# Altium footprint library TOxx.PcbLib: 13 footprints
Each footprint in its own frame and in the unit in brackets; x right, y up, seen from the top. Pads: shape width x height; smd on the part's side, far side on the other; paste and mask are expansions set on the pad; w line width, h text height; cw(c..) or ccw(c..) is an arc to the next point about the centre after c.
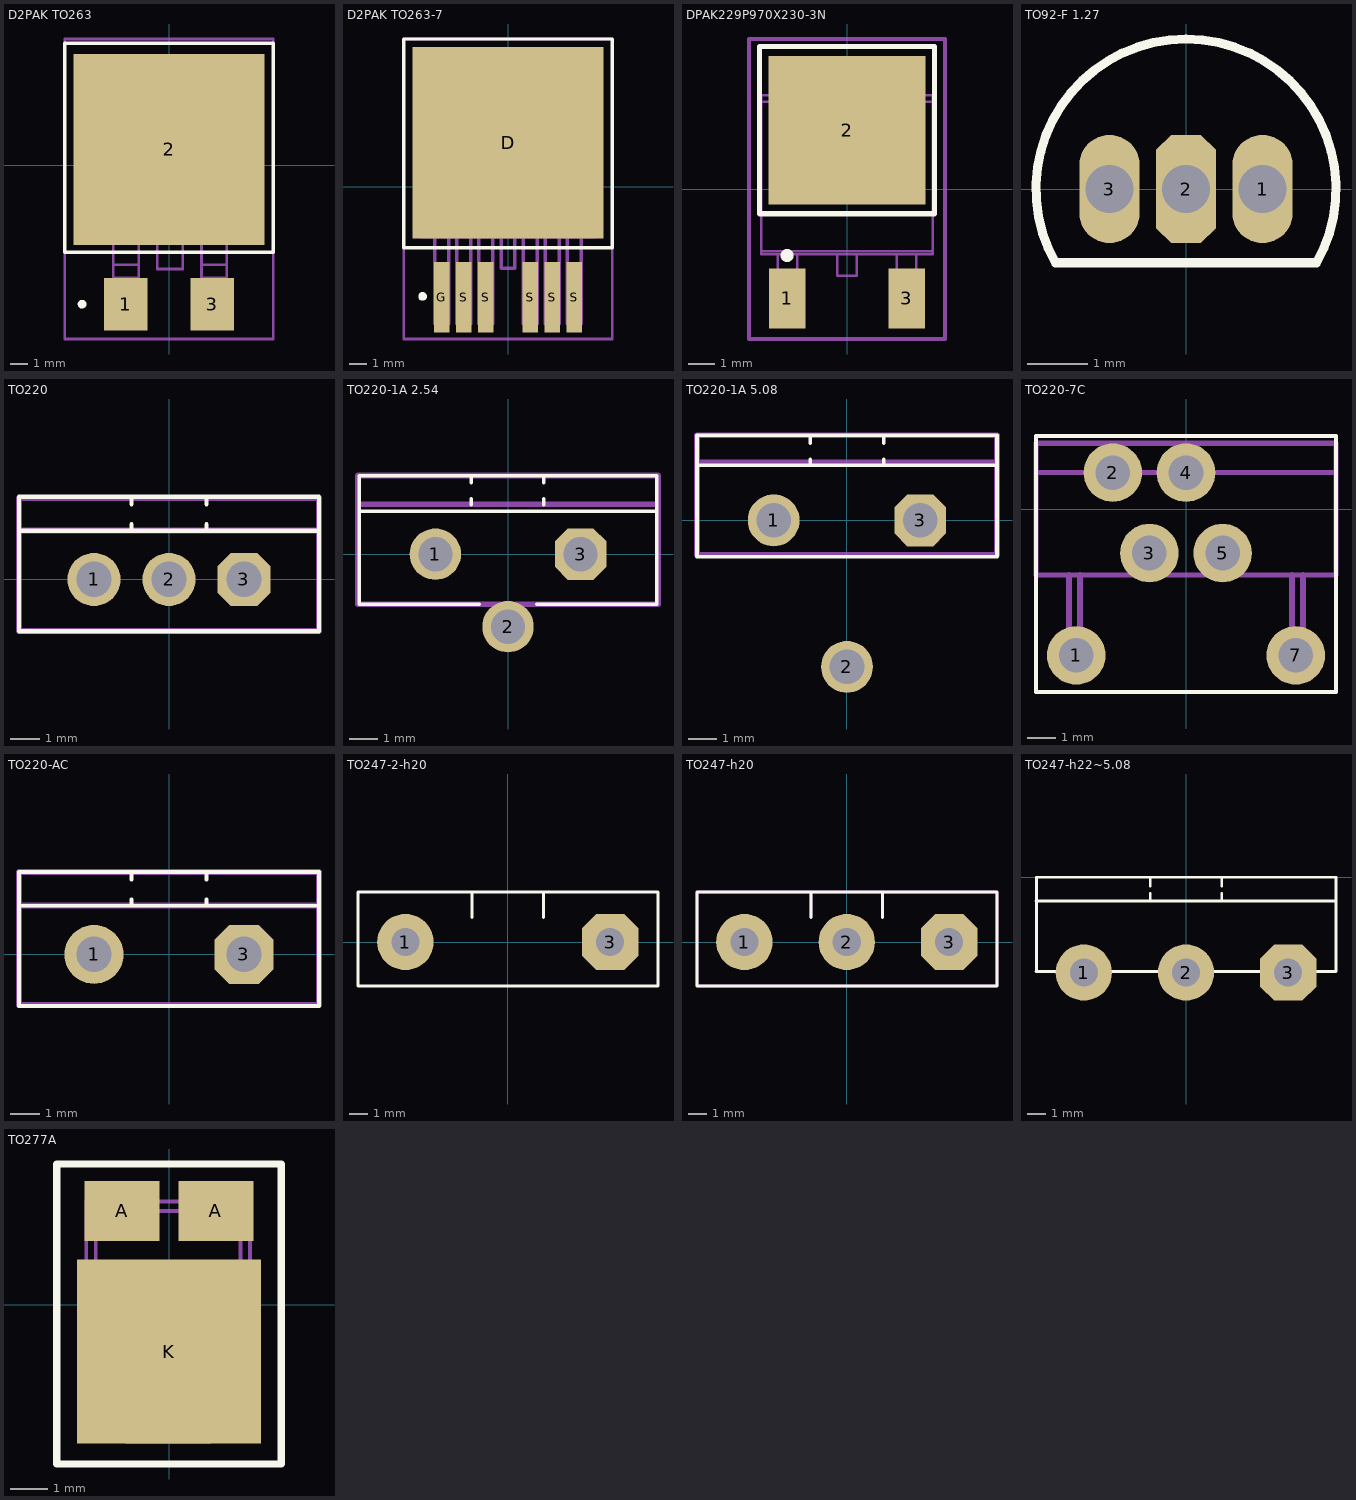
[diagram p0: the footprints below, top view; thin cyan lines are the x and y axes]

## D2PAK TO263 [mm]
pads (3):
  rect 2.5x3 smd: 1(-2.5,-8) 3(2.5,-8)
  rect 11x11 smd: 2(0,0.9)
TopOverlay:
  circle w0.25: c-5,-8 r0.125
  lines w0.2: -6,-5 -6,7 6,7 6,-5 -6,-5
Top Assembly:
  lines w0.15: -3.209,-4.263 -5.019,-4.263 ; -1.749,-4.263 -0.669,-4.263 ; 0.791,-4.263 1.871,-4.263 ; 3.331,-4.263 5.141,-4.263 ; -5.019,-4.263 -4.705,-3.949 ; -5.019,-4.263 -5.019,4.752 ; -5.019,4.752 -4.705,4.438 ; -5.019,4.752 -4.888,4.882 ; -4.888,4.882 5.011,4.882 ; -4.888,4.882 -4.888,5.226 -3.388,6.092 3.511,6.092 5.011,5.226 5.011,4.882 ; -4.705,-3.949 -4.705,4.438 ; -4.705,-3.949 4.827,-3.949 ; -4.705,4.438 4.827,4.438 ; -3.209,-6.49 -3.209,-5.729 ; -3.209,-6.49 -3.209,-6.806 -2.854,-6.806 -2.854,-7.122 ; -3.209,-6.49 -1.749,-6.49 ; -3.209,-5.729 -3.209,-4.193 -1.749,-4.193 -1.749,-5.729 ; -3.209,-5.729 -1.749,-5.729 ; -2.854,-9.135 -2.104,-9.135 ; -2.854,-9.135 -2.854,-7.395 ; -2.854,-9.135 -2.854,-9.172 -2.104,-9.172 -2.104,-9.135 ; -2.854,-7.395 -2.854,-7.122 ; -2.854,-7.395 -2.104,-7.395 ; -2.854,-7.122 -2.104,-7.122 ; -2.104,-9.135 -2.104,-7.395 ; -2.104,-7.395 -2.104,-7.122 ; -2.104,-7.122 -2.104,-6.806 -1.749,-6.806 -1.749,-6.49 ; -1.749,-6.49 -1.749,-5.729 ; 1.871,-6.49 1.871,-5.729 ; 1.871,-6.49 1.871,-6.806 2.226,-6.806 2.226,-7.122 ; 1.871,-6.49 3.331,-6.49 ; 1.871,-5.729 1.871,-4.193 3.331,-4.193 3.331,-5.729 ; 1.871,-5.729 3.331,-5.729 ; 2.226,-9.135 2.976,-9.135 ; 2.226,-9.135 2.226,-7.395 ; 2.226,-9.135 2.226,-9.172 2.976,-9.172 2.976,-9.135 ; 2.226,-7.395 2.226,-7.122 ; 2.226,-7.395 2.976,-7.395 ; 2.226,-7.122 2.976,-7.122 ; 2.976,-9.135 2.976,-7.395 ; 2.976,-7.395 2.976,-7.122 ; 2.976,-7.122 2.976,-6.806 3.331,-6.806 3.331,-6.49 ; 3.331,-6.49 3.331,-5.729 ; 4.827,-3.949 5.141,-4.263 ; 4.827,-3.949 4.827,4.438 ; 4.827,4.438 5.141,4.752 ; 5.011,4.882 5.141,4.752 ; 5.141,-4.263 5.141,4.752 ; -0.669,-5.973 0.791,-5.973 0.791,-4.193 -0.669,-4.193 -0.669,-5.973
Top Component Outline:
  lines w0.15: -6,-10 6,-10 6,7.25 -6,7.25 -6,-10
3D body "User Library-DPAK (1).step": height 4.98, standoff -0.03, extent -5.08,-9.25 5.08,6.014

## D2PAK TO263-7 [mm] "D2-PAK, 7-Pads, Body 7,93x8,69mm (max), IPC Medium Density"
height 4.8
pads (7):
  rect 11x11 smd: D(0,2.54)
  rect 0.9x4.05 smd: G(-3.81,-6.35) S(-2.54,-6.35) S(-1.27,-6.35) S(1.27,-6.35) S(2.54,-6.35) S(3.81,-6.35)
TopOverlay:
  circle w0.25: c-4.91,-6.3 r0.125
  lines w0.2: -6,-3.5 6,-3.5 6,8.5 -6,8.5 -6,-3.5
Top Assembly:
  drawing of 182 lines, arcs and shapes, not listed
Top Component Outline:
  lines w0.15: -0.5,0 0.5,0 ; 0,-0.5 0,0.5 ; -6,-8.75 -6,8.5 6,8.5 6,-8.75 -6,-8.75
3D body "SW3dPS-TO263-7S.STEP": height 4.88, standoff 0.08, extent -5,-7.869 5,7.801

## DPAK229P970X230-3N [mm] "D-PAK, 3-Pads, Body 6,20x6,71mm (max), IPC Medium Density"
height 2.3
pads (3):
  rect 1.4x2.3 smd: 1(-2.286,-4.191) 3(2.286,-4.191)
  rect 6x5.7 smd: 2(0,2.25)
TopOverlay:
  circle w0.25: c-2.3,-2.55 r0.125
  lines w0.2: -3.35,-0.95 -3.35,5.461 3.35,5.461 3.35,-0.95 -3.35,-0.95
Top Assembly:
  lines w0.1: -3.29,-2.39 -3.29,3.35 ; -3.29,-2.39 3.29,-2.39 ; -3.29,-2.39 -3.29,-2.5 -2.66,-2.5 ; -3.29,3.35 3.29,3.35 ; -3.29,3.35 -3.29,3.6 -2.68,3.6 ; -2.68,3.6 -2.68,4.8 -1.93,4.8 -1.93,4.3 1.93,4.3 1.93,4.8 2.68,4.8 2.68,3.6 ; -2.68,3.6 -1.675,3.6 ; -2.66,-4.3 -1.91,-4.3 ; -2.66,-4.3 -2.66,-4.9 -1.91,-4.9 -1.91,-4.3 ; -2.66,-4.3 -2.66,-4.1 ; -2.66,-4.1 -2.66,-3.45 ; -2.66,-4.1 -1.91,-4.1 ; -2.66,-3.45 -1.91,-3.45 ; -2.66,-3.45 -2.66,-2.5 ; -2.66,-2.5 -1.91,-2.5 ; -1.91,-4.3 -1.91,-4.1 ; -1.91,-4.1 -1.91,-3.45 ; -1.91,-3.45 -1.91,-2.5 ; -1.91,-2.5 -0.375,-2.5 ; -1.675,3.6 cw(c-1.43,3.55) -1.43,3.8 1.43,3.8 cw(c1.43,3.55) 1.675,3.6 ; -1.675,3.6 1.675,3.6 ; -0.375,-2.5 -0.375,-3.33 0.375,-3.33 0.375,-2.5 ; -0.375,-2.5 0.375,-2.5 ; 0.375,-2.5 1.91,-2.5 ; 1.675,3.6 2.68,3.6 ; 1.91,-4.3 2.66,-4.3 ; 1.91,-4.3 1.91,-4.9 2.66,-4.9 2.66,-4.3 ; 1.91,-4.3 1.91,-4.1 ; 1.91,-4.1 1.91,-3.45 ; 1.91,-4.1 2.66,-4.1 ; 1.91,-3.45 2.66,-3.45 ; 1.91,-3.45 1.91,-2.5 ; 1.91,-2.5 2.66,-2.5 ; 2.66,-4.3 2.66,-4.1 ; 2.66,-4.1 2.66,-3.45 ; 2.66,-3.45 2.66,-2.5 ; 2.66,-2.5 3.29,-2.5 3.29,-2.39 ; 2.68,3.6 3.29,3.6 3.29,3.35 ; 3.29,-2.39 3.29,3.35
Top Component Outline:
  lines w0.15: -0.5,0 0.5,0 ; 0,-0.5 0,0.5 ; -3.75,-5.75 -3.75,5.75 3.75,5.75 3.75,-5.75 -3.75,-5.75
3D body "TO-252.STEP": height 2.35, standoff 0, extent -3.29,-5.06 3.29,5.08

## TO92-F 1.27 [mm]
pads (3):
  oval 1x1.8 hole 0.8: 1(1.27,0) 3(-1.27,0)
  oct 1x1.8 hole 0.8: 2(0,0)
TopOverlay:
  lines w0.15: -2.167,-1.224 cw(c0,0) 2.167,-1.224 -2.167,-1.224
3D body "TO-92A.step": height 8, standoff -3, extent -2.413,-1.524 2.387,2.406

## TO220 [mm]
pads (3):
  round 1.8 hole 1.2: 1(-2.54,0) 2(0,0)
  oct 1.8x1.8 hole 1.2: 3(2.54,0)
TopOverlay:
  lines w0.15: -5.08,1.651 5.08,1.651 ; -1.27,1.651 -1.27,1.863 ; -1.27,2.54 -1.27,2.794 ; 1.27,1.651 1.27,1.863 ; 1.27,2.54 1.27,2.794 ; -5.08,-1.749 -5.08,2.794 5.08,2.794 5.08,-1.749 -5.08,-1.749
Top Assembly:
  lines w0.2: -5.08,1.651 5.08,1.651 ; -5.08,-1.742 -5.08,2.758 5.08,2.758 5.08,-1.742 -5.08,-1.742
3D body "User Library-TO-220-4.STEP": height 25.06, standoff -3.74, extent -5.12,-1.742 5.08,2.758

## TO220-1A 2.54 [mm]
pads (3):
  round 1.8 hole 1.2: 1(-2.54,0) 2(0,-2.54)
  oct 1.8x1.8 hole 1.2: 3(2.54,0)
TopOverlay:
  lines w0.125: -5.2,1.5 5.2,1.5 ; -1.29,1.734 -1.29,1.946 ; -1.29,2.496 -1.29,2.75 ; -1,-1.75 -2.525,-1.75 -5.2,-1.75 -5.2,2.75 5.2,2.75 5.2,-1.75 1,-1.75 ; 1.25,1.734 1.25,1.946 ; 1.25,2.496 1.25,2.75
Top Assembly:
  lines w0.2: -0.35,-1.75 -0.35,-2.259 ; 0.45,-1.75 0.45,-2.259 ; -5.25,1.75 -5.25,1.1 -5.25,-1.75 5.25,-1.75 5.25,1.75 ; -5.25,1.75 5.25,1.75 ; -5.25,1.75 -5.25,2.75 5.25,2.75 5.25,1.75 ; -0.35,-2.259 0.45,-2.259 ; -0.35,-2.259 -0.35,-2.495 0.45,-2.495 0.45,-2.259
3D body "TO220-1A 2.54.STEP": height 23.29, standoff -3.87, extent -5.2,-2.991 5.2,2.75

## TO220-1A 5.08 [mm]
pads (3):
  round 1.8 hole 1.2: 1(-2.54,0) 2(0,-5.08)
  oct 1.8x1.8 hole 1.2: 3(2.54,0)
TopOverlay:
  lines w0.125: -5.2,1.905 5.2,1.905 ; -1.27,1.905 -1.27,2.117 ; -1.27,2.667 -1.27,2.921 ; 1.27,1.905 1.27,2.117 ; 1.27,2.667 1.27,2.921 ; -5.2,-1.27 -5.2,2.95 5.2,2.95 5.2,-1.27 -5.2,-1.27
Top Assembly:
  lines w0.2: -5.2,2 5.2,2 ; -5.2,-1.191 -5.2,2.95 5.2,2.95 5.2,-1.191 -5.2,-1.191
3D body "TO220-1A 5.08.STEP": height 23.29, standoff -2.41, extent -5.2,-5.331 5.2,2.95

## TO220-7C [mil]
pads (6):
  round 80 hole 47.24: 1(-150,-200) 2(-100,50) 3(-50,-60) 4(0,50) 5(50,-60) 7(150,-200)
TopOverlay:
  lines w5.91: -205,-250 205,-250 205,100 -205,100 -205,-250
Top Assembly:
  lines w7.01: -205,50 205,50 ; -205,-90 205,-90 205,90 -205,90 -205,-90
  lines w7.87: -160,-90 -160,-215 -145,-215 -145,-200 -145,-90 ; 145,-90 145,-215 160,-215 160,-200 160,-90
3D body "User Library-TO-220-7C.step": height 758.19, standoff -85.91, extent -204.45,-215.08 205,105

## TO220-AC [mm]
pads (2):
  round 2 hole 1.2: 1(-2.54,0)
  oct 2x2 hole 1.2: 3(2.54,0)
TopOverlay:
  lines w0.125: -5.08,1.651 5.08,1.651 ; -1.27,1.651 -1.27,1.863 ; -1.27,2.54 -1.27,2.794 ; 1.27,1.651 1.27,1.863 ; 1.27,2.54 1.27,2.794 ; -5.08,-1.749 5.08,-1.749 5.08,2.794 -5.08,2.794 -5.08,-1.749
Top Assembly:
  lines w0.2: -5,1.651 5,1.651 ; -5.08,-1.706 5.08,-1.706 5.08,2.794 -5.08,2.794 -5.08,-1.706
3D body "User Library-TO220-2_V-L.STEP": height 25.04, standoff -4.46, extent -5,-1.706 5,2.794

## TO247-2-h20 [mm]
pads (2):
  round 3 hole 1.5: 1(-5.45,0)
  oct 3x3 hole 1.5: 3(5.45,0)
TopOverlay:
  lines w0.15: -1.905,1.3 -1.905,2.66 ; 1.905,1.3 1.905,2.66 ; -7.975,-2.34 8,-2.34 8,2.66 -7.975,2.66 -7.975,-2.34
3D body "User Library-TO247-2.step": height 26, standoff -15.07, extent -7.962,-2.37 7.988,2.66

## TO247-h20 [mm]
pads (3):
  round 3 hole 1.5: 1(-5.45,0) 2(0,0)
  oct 3x3 hole 1.5: 3(5.45,0)
TopOverlay:
  lines w0.15: -1.905,1.3 -1.905,2.66 ; 1.905,1.3 1.905,2.66 ; -7.975,-2.34 8,-2.34 8,2.66 -7.975,2.66 -7.975,-2.34
Top Assembly:
  lines w0.15: -1.905,1.3 -1.905,2.66 ; 1.905,1.3 1.905,2.66 ; -7.975,-2.34 -7.975,2.66 8,2.66 8,-2.34 -7.975,-2.34
3D body "TO247-10.STEP": height 26.2, standoff -4.38, extent -8,-2.34 8,2.66

## TO247-h22~5.08 [mm]
pads (3):
  round 3 hole 1.5: 1(-5.45,-5.08) 2(0,-5.08)
  oct 3x3 hole 1.5: 3(5.45,-5.08)
TopOverlay:
  lines w0.15: -8,-5.03 8,-5.03 8,0 -7.975,0 -7.975,-5.03 ; -8,-1.27 8,-1.27 ; -1.905,-1.27 -1.905,-0.847 ; -1.905,-0.467 -1.905,0 ; 1.905,-1.27 1.905,-0.847 ; 1.905,-0.467 1.905,0
3D body "TO247AD-h20~5.08.STEP": height 28, standoff -6, extent -7.975,-5.43 7.975,0

## TO277A [mm]
pads (3):
  rect 2x1.6 smd: A(-1.25,2.5) A(1.25,2.5)
  rect 4.9x4.9 smd: K(0,-1.25)
TopOverlay:
  lines w0.2: -3,-4.25 -3,3.75 3,3.75 3,-4.25 -3,-4.25
Top Assembly:
  lines w0.1: -2.207,0.135 -2.408,0.135 -2.408,0.888 -2.207,0.888 ; -1.806,2.749 -1.806,3 -0.451,3 -0.451,2.749 ; -1.129,-3.422 -1.129,-3.673 1.079,-3.673 1.079,-3.422 ; 0.402,2.749 0.402,3 1.756,3 1.756,2.749 ; 2.158,0.135 2.359,0.135 2.359,0.888 2.158,0.888 ; -2.207,-3.422 -1.957,-3.172 ; -2.207,-3.422 -2.207,2.749 ; -2.207,-3.422 2.158,-3.422 ; -2.207,2.749 -1.957,2.498 ; -2.207,2.749 2.158,2.749 ; -1.957,-3.172 -1.957,2.498 ; -1.957,-3.172 1.907,-3.172 ; -1.957,2.498 1.907,2.498 ; 1.907,-3.172 2.158,-3.422 ; 1.907,-3.172 1.907,2.498 ; 1.907,2.498 2.158,2.749 ; 2.158,-3.422 2.158,2.749
Top Component Outline:
  lines w0.15: -0.5,0 0.5,0 ; 0,-0.5 0,0.5 ; -3,-4.25 3,-4.25 3,3.75 -3,3.75 -3,-4.25
3D body "User Library-TO-277A.step": height 1.2, standoff 0, extent -2.375,-3.65 2.375,3